# Altium footprint library ArduinoProMini_PcbLib.PcbLib: 11 footprints
Each footprint in its own frame and in the unit in brackets; x right, y up, seen from the top. Pads: shape width x height; smd on the part's side, far side on the other; paste and mask are expansions set on the pad; w line width, h text height; cw(c..) or ccw(c..) is an arc to the next point about the centre after c.
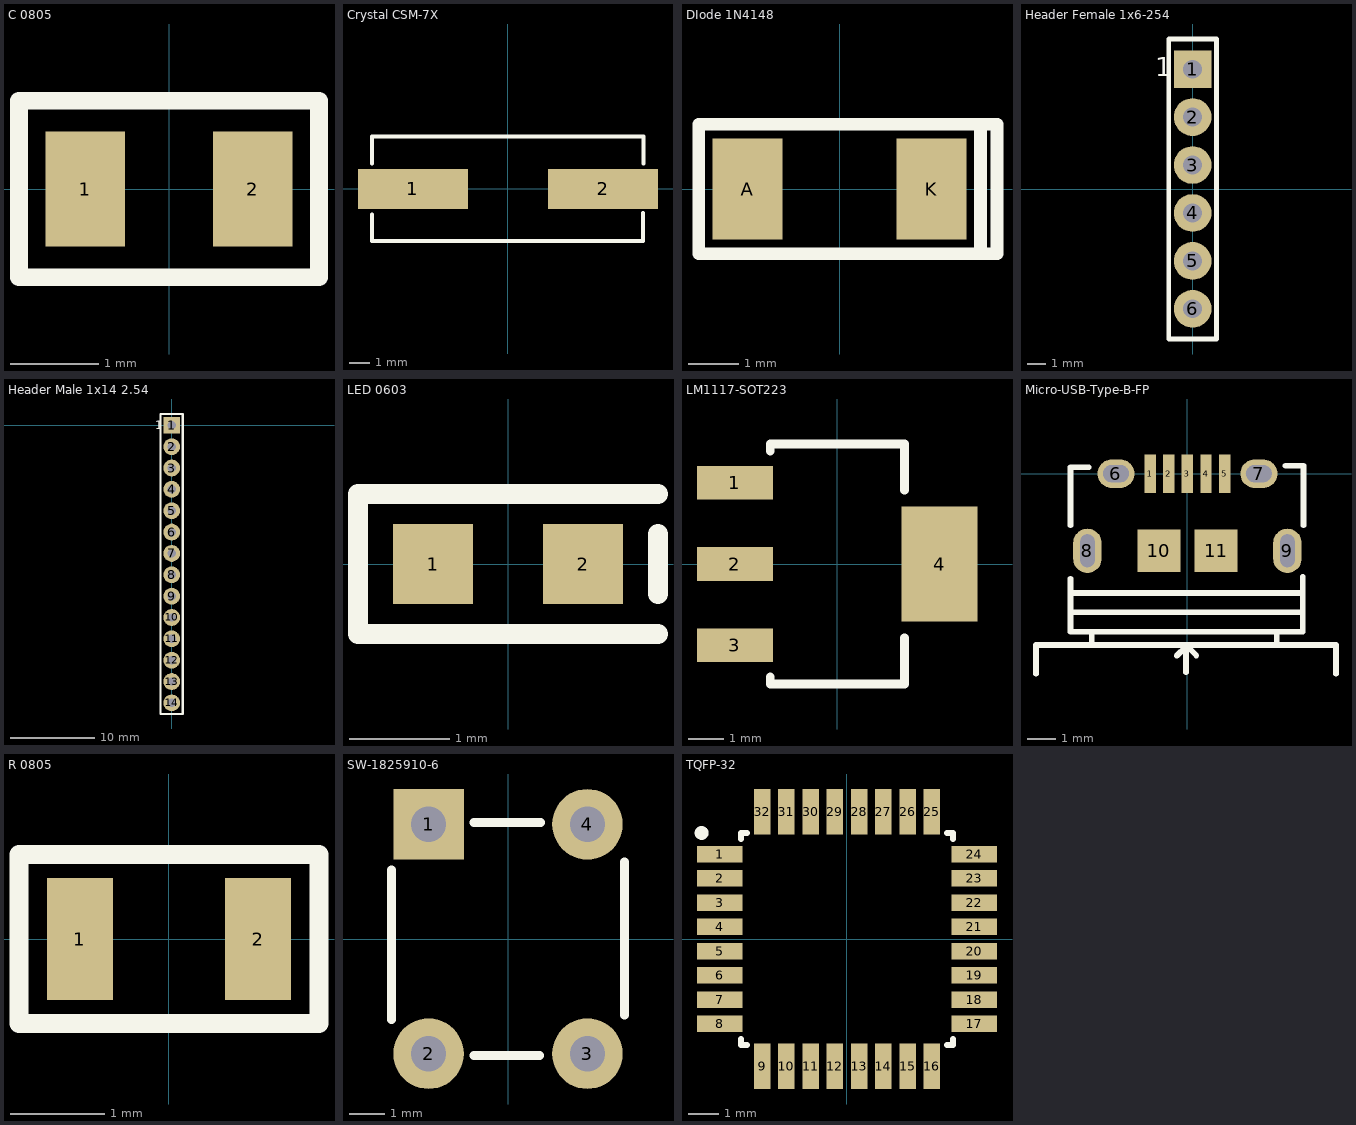
[diagram p0: the footprints below, top view; thin cyan lines are the x and y axes]

## C 0805 [mm]
pads (2):
  rect 0.9x1.3 smd: 1(-0.95,0) 2(0.95,0)
Top Overlay:
  lines w0.2: -1.7,-1 -1.7,1 1.7,1 1.7,-1 -1.7,-1
3D body "Ceramic0805.step": height 0.61, standoff 0.01, extent -1,-0.625 1,0.625

## Crystal CSM-7X [mm]
pads (2):
  rect 5.5x2 smd: 1(-4.75,0) 2(4.75,0)
Top Overlay:
  lines w0.2: -6.812,-1.273 -6.812,-2.591 6.756,-2.591 ; -6.807,1.27 -6.807,2.616 6.756,2.616 ; 6.756,-2.553 6.756,-1.206 ; 6.782,1.27 6.782,2.616
3D body "ECS-240-20-5PX-TR.step": height 4.31, standoff 0.01, extent -6.6,-2.4 6.6,2.4

## DIode 1N4148 [mm]
pads (2):
  rect 1.4x2.03 smd: A(-1.84,0) K(1.84,0)
Top Overlay:
  lines w0.254: 2.819,-1.295 -2.819,-1.295 -2.819,1.295 2.819,1.295 ; 2.819,-1.295 2.819,1.295 ; 2.819,-1.295 3.15,-1.295 3.15,1.295 2.819,1.295
3D body "MiniMelf.step": height 1.6, standoff 0, extent -1.811,-0.79 1.889,0.799

## Header Female 1x6-254 [mm]
pads (6):
  rect 2x2 hole 1: 1(0,6.35)
  round 2 hole 1: 2(0,3.81) 3(0,1.27) 4(0,-1.27) 5(0,-3.81) 6(0,-6.35)
Top Overlay:
  lines w0.254: -1.27,-7.95 -1.27,7.95 1.27,7.95 1.27,-7.95 -1.27,-7.95
  text "1" at -1.973,5.967 h1
3D body "m20-7820646.stp": height 8.51, standoff -2.99, extent -1.168,-7.82 1.332,7.82

## Header Male 1x14 2.54 [mm]
pads (14):
  rect 2x2 hole 1: 1(0,0)
  round 2 hole 1: 2(0,-2.54) 3(0,-5.08) 4(0,-7.62) 5(0,-10.16) 6(0,-12.7) 7(0,-15.24) 8(0,-17.78) 9(0,-20.32) 10(0,-22.86) 11(0,-25.4) 12(0,-27.94) 13(0,-30.48) 14(0,-33.02)
Top Overlay:
  lines w0.254: -1.346,-34.341 -1.346,1.346 1.321,1.346 1.321,-34.341 -1.346,-34.341
  text "1" at -1.958,-0.46 h1
3D body "header-male-1x14-2.54.STEP": height 5.4, standoff -5.99, extent -1.27,-34.29 1.27,1.27

## LED 0603 [mm]
pads (2):
  rect 0.8x0.8 smd: 1(-0.75,0) 2(0.75,0)
Top Overlay:
  lines w0.2: 1.5,-0.7 -1.5,-0.7 -1.5,0.7 1.5,0.7 ; 1.5,-0.3 1.5,0.3
3D body "User Library-LED SMD0603.step": height 0.68, standoff 0, extent -0.825,-0.356 0.825,0.369

## LM1117-SOT223 [mm]
pads (4):
  rect 2.15x0.95 smd: 1(-2.9,2.3) 2(-2.9,0) 3(-2.9,-2.3)
  rect 2.15x3.25 smd: 4(2.9,0)
Top Overlay:
  lines w0.254: -1.9,-3.2 -1.9,-3.4 1.9,-3.4 1.9,-2.1 ; -1.9,3.2 -1.9,3.4 1.9,3.4 1.9,2.1
3D body "SOT-223.step": height 1.61, standoff -0.04, extent -3.5,-3.25 3.5,3.25

## Micro-USB-Type-B-FP [mm]
pads (11):
  rect 0.4x1.35 smd mask+0.06: 1(-1.3,0) 2(-0.65,0) 3(0,0) 4(0.65,0) 5(1.3,0)
  oval 1.3x1 hole 0.6 slot 0.9 at 0 deg mask+0.06: 6(-2.5,0) 7(2.5,0)
  oval 1x1.55 hole 0.5 slot 1.15 at 90 deg mask+0.06: 8(-3.5,-2.7) 9(3.5,-2.7)
  rect 1.5x1.5 smd mask+0.06: 10(-1,-2.7) 11(1,-2.7)
Top Overlay:
  lines w0.2: -5.3,-7 -5.3,-6 5.2,-6 5.2,-7 ; -4.089,-3.683 -4.089,-5.537 4.039,-5.537 4.039,-3.607 ; -4.089,-1.803 -4.089,0.229 -3.454,0.229 ; -4.05,-4.851 3.962,-4.851 ; -4.05,-4.175 4,-4.175 ; -3.35,-5.975 -3.35,-5.55 ; -0.375,-6.375 -0.05,-6.05 -0.05,-6 ; -0.05,-6.95 -0.05,-6 ; 0.313,-6.362 -0.05,-6 ; 3.125,-5.975 3.125,-5.575 ; 3.429,0.279 4.064,0.279 4.064,-1.803
3D body "Micro-USB-Type-B.stp": height 2.77, standoff -0.69, extent -4.039,-5.487 4.011,0.204

## R 0805 [mm]
pads (2):
  rect 0.7x1.3 smd: 1(-0.95,0) 2(0.95,0)
Top Overlay:
  lines w0.2: -1.6,-0.9 1.6,-0.9 1.6,0.9 -1.6,0.9 -1.6,-0.9
3D body "CR2012-0805.step": height 0.61, standoff 0.01, extent -1,-0.625 1,0.625

## SW-1825910-6 [mm]
pads (4):
  rect 2x2 hole 1: 1(-2.25,3.25)
  round 2 hole 1: 2(-2.25,-3.25) 3(2.25,-3.25) 4(2.25,3.25)
Top Overlay:
  lines w0.254: -3.302,-2.286 -3.302,1.956 ; -0.965,-3.302 0.889,-3.302 ; -0.965,3.302 0.914,3.302 ; 3.302,-2.159 3.302,2.184
3D body "FSM4JH(1825910-6).step": height 5, standoff -3.51, extent -2.995,-3.9 2.995,3.9

## TQFP-32 [mm]
pads (32):
  rect 1.5x0.55 smd mask+0.06: 1(-4.2,2.8) 2(-4.2,2) 3(-4.2,1.2) 4(-4.2,0.4) 5(-4.2,-0.4) 6(-4.2,-1.2) 7(-4.2,-2) 8(-4.2,-2.8) 17(4.2,-2.8) 18(4.2,-2) 19(4.2,-1.2) 20(4.2,-0.4) 21(4.2,0.4) 22(4.2,1.2) 23(4.2,2) 24(4.2,2.8)
  rect 0.55x1.5 smd mask+0.06: 9(-2.8,-4.2) 10(-2,-4.2) 11(-1.2,-4.2) 12(-0.4,-4.2) 13(0.4,-4.2) 14(1.2,-4.2) 15(2,-4.2) 16(2.8,-4.2) 25(2.8,4.2) 26(2,4.2) 27(1.2,4.2) 28(0.4,4.2) 29(-0.4,4.2) 30(-1.2,4.2) 31(-2,4.2) 32(-2.8,4.2)
Top Overlay:
  circle w0.254: c-4.8,3.5 r0.1
  lines w0.2: -3.5,-3.3 -3.5,-3.5 -3.3,-3.5 ; -3.5,3.3 -3.5,3.5 -3.3,3.5 ; 3.3,-3.5 3.5,-3.5 3.5,-3.3 ; 3.3,3.5 3.5,3.5 3.5,3.3
3D body "User Library-TQFP32-1.STEP": height 1.1, standoff 0, extent -4.509,-4.509 4.509,4.509